# Altium footprint library Capacitor_THT.PcbLib: 378 footprints (part 8 of 24)
Each footprint in its own frame and in the unit in brackets; x right, y up, seen from the top. Pads: shape width x height; smd on the part's side, far side on the other; paste and mask are expansions set on the pad; w line width, h text height; cw(c..) or ccw(c..) is an arc to the next point about the centre after c.
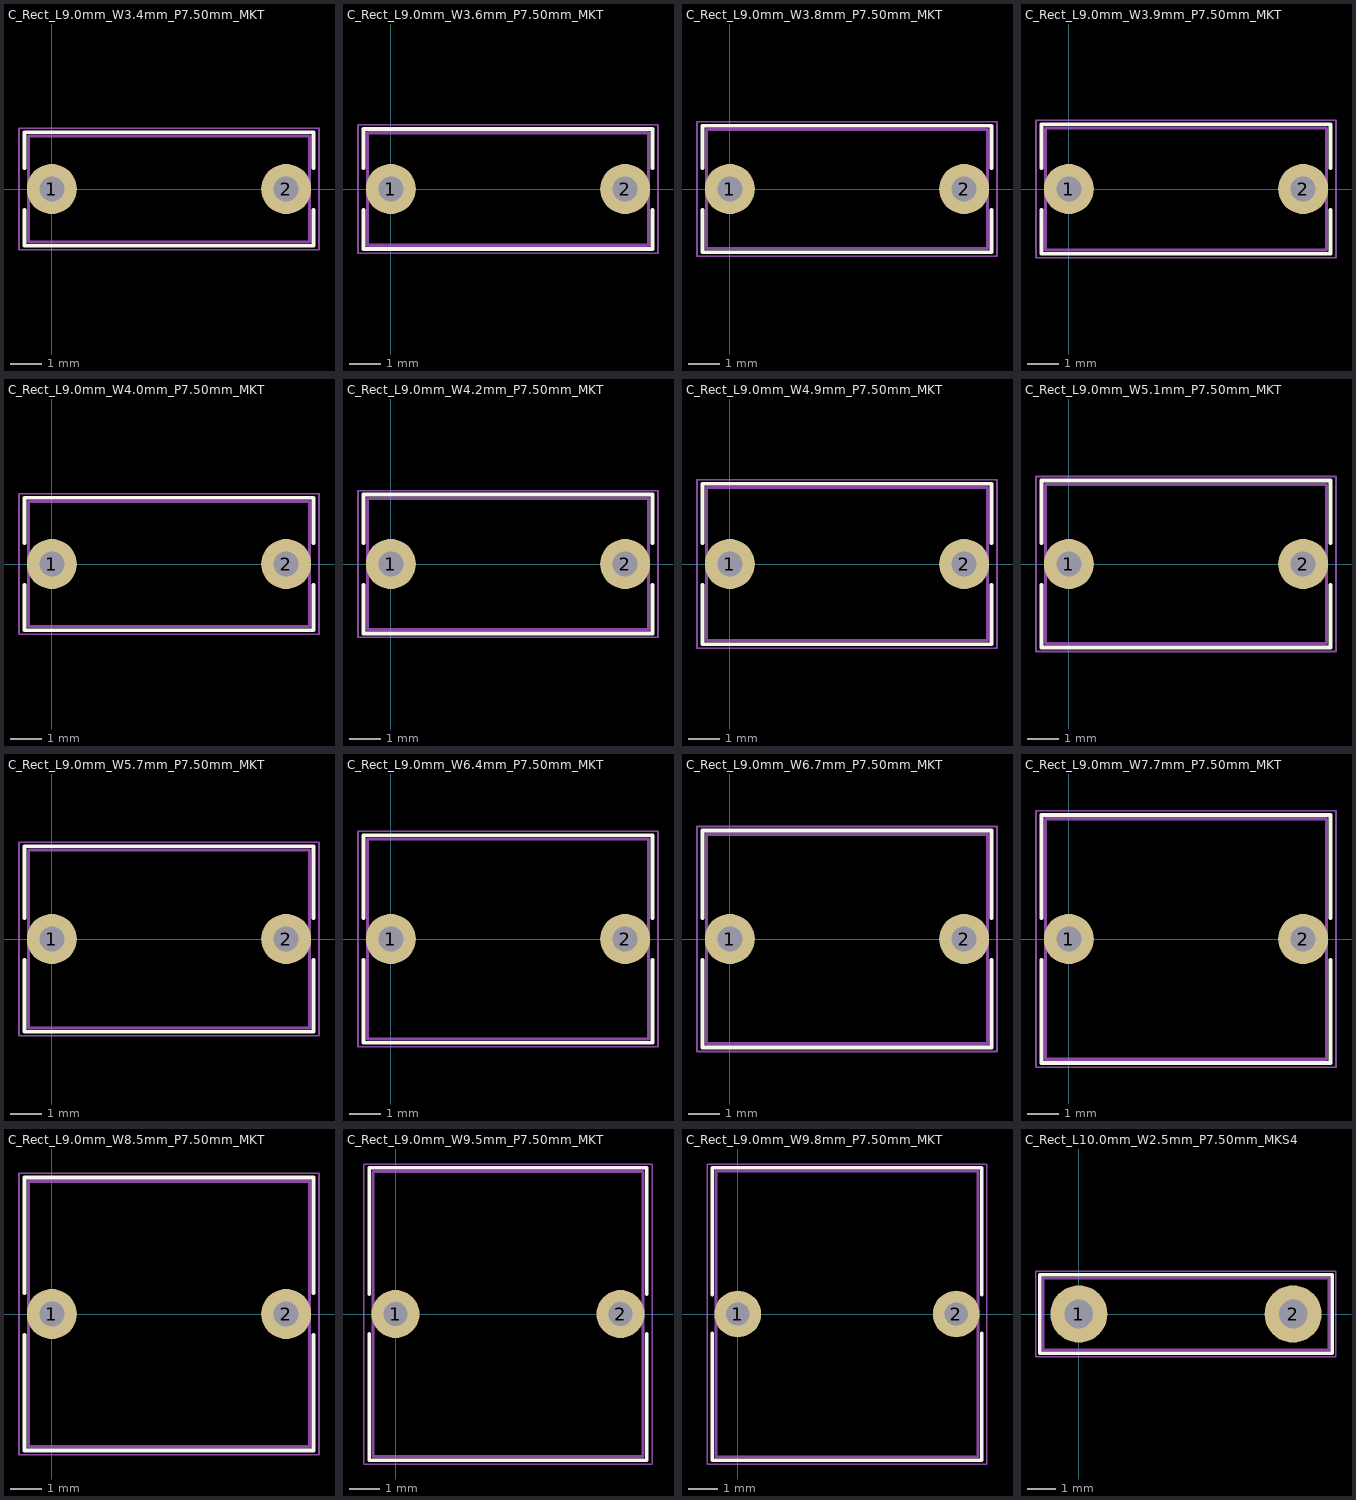
[diagram p7: the footprints below, top view; thin cyan lines are the x and y axes]

## C_Rect_L9.0mm_W3.4mm_P7.50mm_MKT [mm]
pads (2):
  round 1.6 hole 0.8: 1(0,0) 2(7.5,0)
F.SilkS:
  lines w0.12: -0.87,-0.665 -0.87,-1.82 8.37,-1.82 8.37,-0.665 ; -0.87,0.665 -0.87,1.82 8.37,1.82 8.37,0.665
F.CrtYd:
  lines w0.05: -1.05,-1.95 -1.05,1.95 8.55,1.95 8.55,-1.95 -1.05,-1.95
F.Fab:
  lines w0.1: -0.75,-1.7 -0.75,1.7 8.25,1.7 8.25,-1.7 -0.75,-1.7
  text "'.Designator'" at -0.297,-0.84 h1

## C_Rect_L9.0mm_W3.6mm_P7.50mm_MKT [mm]
pads (2):
  round 1.6 hole 0.8: 1(0,0) 2(7.5,0)
F.SilkS:
  lines w0.12: -0.87,-0.665 -0.87,-1.92 8.37,-1.92 8.37,-0.665 ; -0.87,0.665 -0.87,1.92 8.37,1.92 8.37,0.665
F.CrtYd:
  lines w0.05: -1.05,-2.05 8.55,-2.05 8.55,2.05 -1.05,2.05 -1.05,-2.05
F.Fab:
  lines w0.1: -0.75,-1.8 8.25,-1.8 8.25,1.8 -0.75,1.8 -0.75,-1.8
  text "'.Designator'" at -0.297,-0.84 h1

## C_Rect_L9.0mm_W3.8mm_P7.50mm_MKT [mm]
pads (2):
  round 1.6 hole 0.8: 1(0,0) 2(7.5,0)
F.SilkS:
  lines w0.12: -0.87,-0.665 -0.87,-2.02 8.37,-2.02 8.37,-0.665 ; -0.87,0.665 -0.87,2.02 8.37,2.02 8.37,0.665
F.CrtYd:
  lines w0.05: -1.05,-2.15 8.55,-2.15 8.55,2.15 -1.05,2.15 -1.05,-2.15
F.Fab:
  lines w0.1: -0.75,-1.9 -0.75,1.9 8.25,1.9 8.25,-1.9 -0.75,-1.9
  text "'.Designator'" at -0.297,-0.84 h1

## C_Rect_L9.0mm_W3.9mm_P7.50mm_MKT [mm]
pads (2):
  round 1.6 hole 0.8: 1(0,0) 2(7.5,0)
F.SilkS:
  lines w0.12: -0.87,-0.665 -0.87,-2.07 8.37,-2.07 8.37,-0.665 ; -0.87,0.665 -0.87,2.07 8.37,2.07 8.37,0.665
F.CrtYd:
  lines w0.05: -1.05,-2.2 8.55,-2.2 8.55,2.2 -1.05,2.2 -1.05,-2.2
F.Fab:
  lines w0.1: -0.75,-1.95 -0.75,1.95 8.25,1.95 8.25,-1.95 -0.75,-1.95
  text "'.Designator'" at -0.297,-0.84 h1

## C_Rect_L9.0mm_W4.0mm_P7.50mm_MKT [mm]
pads (2):
  round 1.6 hole 0.8: 1(0,0) 2(7.5,0)
F.SilkS:
  lines w0.12: -0.87,-0.665 -0.87,-2.12 8.37,-2.12 8.37,-0.665 ; -0.87,0.665 -0.87,2.12 8.37,2.12 8.37,0.665
F.CrtYd:
  lines w0.05: -1.05,-2.25 8.55,-2.25 8.55,2.25 -1.05,2.25 -1.05,-2.25
F.Fab:
  lines w0.1: -0.75,-2 -0.75,2 8.25,2 8.25,-2 -0.75,-2
  text "'.Designator'" at -0.297,-0.84 h1

## C_Rect_L9.0mm_W4.2mm_P7.50mm_MKT [mm]
pads (2):
  round 1.6 hole 0.8: 1(0,0) 2(7.5,0)
F.SilkS:
  lines w0.12: -0.87,-0.665 -0.87,-2.22 8.37,-2.22 8.37,-0.665 ; -0.87,0.665 -0.87,2.22 8.37,2.22 8.37,0.665
F.CrtYd:
  lines w0.05: -1.05,-2.35 -1.05,2.35 8.55,2.35 8.55,-2.35 -1.05,-2.35
F.Fab:
  lines w0.1: -0.75,-2.1 -0.75,2.1 8.25,2.1 8.25,-2.1 -0.75,-2.1
  text "'.Designator'" at -0.297,-0.84 h1

## C_Rect_L9.0mm_W4.9mm_P7.50mm_MKT [mm]
pads (2):
  round 1.6 hole 0.8: 1(0,0) 2(7.5,0)
F.SilkS:
  lines w0.12: -0.87,-0.665 -0.87,-2.571 8.37,-2.571 8.37,-0.665 ; -0.87,0.665 -0.87,2.571 8.37,2.571 8.37,0.665
F.CrtYd:
  lines w0.05: -1.05,-2.7 8.55,-2.7 8.55,2.7 -1.05,2.7 -1.05,-2.7
F.Fab:
  lines w0.1: -0.75,-2.45 8.25,-2.45 8.25,2.45 -0.75,2.45 -0.75,-2.45
  text "'.Designator'" at -0.297,-0.84 h1

## C_Rect_L9.0mm_W5.1mm_P7.50mm_MKT [mm]
pads (2):
  round 1.6 hole 0.8: 1(0,0) 2(7.5,0)
F.SilkS:
  lines w0.12: -0.87,-0.665 -0.87,-2.67 8.37,-2.67 8.37,-0.665 ; -0.87,0.665 -0.87,2.67 8.37,2.67 8.37,0.665
F.CrtYd:
  lines w0.05: -1.05,-2.8 8.55,-2.8 8.55,2.8 -1.05,2.8 -1.05,-2.8
F.Fab:
  lines w0.1: -0.75,-2.55 -0.75,2.55 8.25,2.55 8.25,-2.55 -0.75,-2.55
  text "'.Designator'" at -0.297,-0.84 h1

## C_Rect_L9.0mm_W5.7mm_P7.50mm_MKT [mm]
pads (2):
  round 1.6 hole 0.8: 1(0,0) 2(7.5,0)
F.SilkS:
  lines w0.12: -0.87,-0.665 -0.87,-2.97 8.37,-2.97 8.37,-0.665 ; -0.87,0.665 -0.87,2.97 8.37,2.97 8.37,0.665
F.CrtYd:
  lines w0.05: -1.05,-3.1 -1.05,3.1 8.55,3.1 8.55,-3.1 -1.05,-3.1
F.Fab:
  lines w0.1: -0.75,-2.85 8.25,-2.85 8.25,2.85 -0.75,2.85 -0.75,-2.85
  text "'.Designator'" at -0.297,-0.84 h1

## C_Rect_L9.0mm_W6.4mm_P7.50mm_MKT [mm]
pads (2):
  round 1.6 hole 0.8: 1(0,0) 2(7.5,0)
F.SilkS:
  lines w0.12: -0.87,-0.665 -0.87,-3.32 8.37,-3.32 8.37,-0.665 ; -0.87,0.665 -0.87,3.32 8.37,3.32 8.37,0.665
F.CrtYd:
  lines w0.05: -1.05,-3.45 8.55,-3.45 8.55,3.45 -1.05,3.45 -1.05,-3.45
F.Fab:
  lines w0.1: -0.75,-3.2 -0.75,3.2 8.25,3.2 8.25,-3.2 -0.75,-3.2
  text "'.Designator'" at -0.297,-0.84 h1

## C_Rect_L9.0mm_W6.7mm_P7.50mm_MKT [mm]
pads (2):
  round 1.6 hole 0.8: 1(0,0) 2(7.5,0)
F.SilkS:
  lines w0.12: -0.87,-0.665 -0.87,-3.47 8.37,-3.47 8.37,-0.665 ; -0.87,0.665 -0.87,3.47 8.37,3.47 8.37,0.665
F.CrtYd:
  lines w0.05: -1.05,-3.6 -1.05,3.6 8.55,3.6 8.55,-3.6 -1.05,-3.6
F.Fab:
  lines w0.1: -0.75,-3.35 -0.75,3.35 8.25,3.35 8.25,-3.35 -0.75,-3.35
  text "'.Designator'" at -0.297,-0.84 h1

## C_Rect_L9.0mm_W7.7mm_P7.50mm_MKT [mm]
pads (2):
  round 1.6 hole 0.8: 1(0,0) 2(7.5,0)
F.SilkS:
  lines w0.12: -0.87,-0.665 -0.87,-3.97 8.37,-3.97 8.37,-0.665 ; -0.87,0.665 -0.87,3.97 8.37,3.97 8.37,0.665
F.CrtYd:
  lines w0.05: -1.05,-4.1 -1.05,4.1 8.55,4.1 8.55,-4.1 -1.05,-4.1
F.Fab:
  lines w0.1: -0.75,-3.85 -0.75,3.85 8.25,3.85 8.25,-3.85 -0.75,-3.85
  text "'.Designator'" at -0.297,-0.84 h1

## C_Rect_L9.0mm_W8.5mm_P7.50mm_MKT [mm]
pads (2):
  round 1.6 hole 0.8: 1(0,0) 2(7.5,0)
F.SilkS:
  lines w0.12: -0.87,-0.665 -0.87,-4.37 8.37,-4.37 8.37,-0.665 ; -0.87,0.665 -0.87,4.37 8.37,4.37 8.37,0.665
F.CrtYd:
  lines w0.05: -1.05,-4.5 -1.05,4.5 8.55,4.5 8.55,-4.5 -1.05,-4.5
F.Fab:
  lines w0.1: -0.75,-4.25 8.25,-4.25 8.25,4.25 -0.75,4.25 -0.75,-4.25
  text "'.Designator'" at -0.297,-0.84 h1

## C_Rect_L9.0mm_W9.5mm_P7.50mm_MKT [mm]
pads (2):
  round 1.6 hole 0.8: 1(0,0) 2(7.5,0)
F.SilkS:
  lines w0.12: -0.87,-0.665 -0.87,-4.87 8.37,-4.87 8.37,-0.665 ; -0.87,0.665 -0.87,4.87 8.37,4.87 8.37,0.665
F.CrtYd:
  lines w0.05: -1.05,-5 -1.05,5 8.55,5 8.55,-5 -1.05,-5
F.Fab:
  lines w0.1: -0.75,-4.75 8.25,-4.75 8.25,4.75 -0.75,4.75 -0.75,-4.75
  text "'.Designator'" at -0.297,-0.84 h1

## C_Rect_L9.0mm_W9.8mm_P7.50mm_MKT [mm]
pads (2):
  round 1.6 hole 0.8: 1(0,0) 2(7.5,0)
F.SilkS:
  lines w0.12: -0.87,-0.665 -0.87,-5.02 8.37,-5.02 8.37,-0.665 ; -0.87,0.665 -0.87,5.02 8.37,5.02 8.37,0.665
F.CrtYd:
  lines w0.05: -1.05,-5.15 -1.05,5.15 8.55,5.15 8.55,-5.15 -1.05,-5.15
F.Fab:
  lines w0.1: -0.75,-4.9 8.25,-4.9 8.25,4.9 -0.75,4.9 -0.75,-4.9
  text "'.Designator'" at -0.297,-0.84 h1

## C_Rect_L10.0mm_W2.5mm_P7.50mm_MKS4 [mm]
pads (2):
  round 2 hole 1: 1(0,0) 2(7.5,0)
F.SilkS:
  lines w0.12: -1.37,-1.37 8.87,-1.37 8.87,1.37 -1.37,1.37 -1.37,-1.37
F.CrtYd:
  lines w0.05: -1.5,-1.5 9,-1.5 9,1.5 -1.5,1.5 -1.5,-1.5
F.Fab:
  lines w0.1: -1.25,-1.25 -1.25,1.25 8.75,1.25 8.75,-1.25 -1.25,-1.25
  text "'.Designator'" at -0.297,-0.84 h1